# EAGLE library part W25X (library svBGC)
Winbond SPI Flash Memory
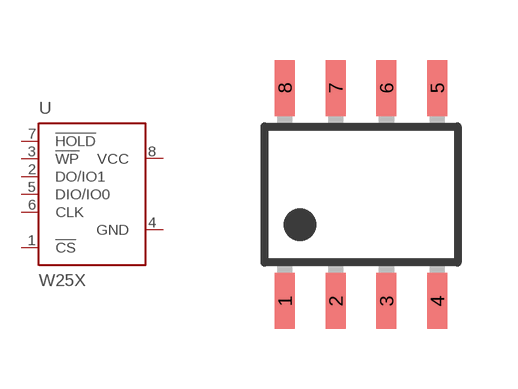
[diagram p3: symbol with the pads of SOIC-8; footprint SOIC-8]

Designator prefix U

## W25X40BVSNIG  [SOIC-8]
1  !CS  in
2  DO/IO1  out
3  !WP  in
4  GND  pwr
5  DIO/IO0
6  CLK  in
7  !HOLD  in
8  VCC  pwr

## Footprint SOIC-8 (pad centres in mm)
SOIC-8 150 mil Package
smd 0.5 x 1.4: 1 -1.905,-2.667; 2 -0.635,-2.667; 3 0.635,-2.667; 4 1.905,-2.667; 5 1.905,2.667; 6 0.635,2.667; 7 -0.635,2.667; 8 -1.905,2.667